# Altium schematic symbol library Capacitor - RF.SchLib: 172 symbols (part 3 of 3)
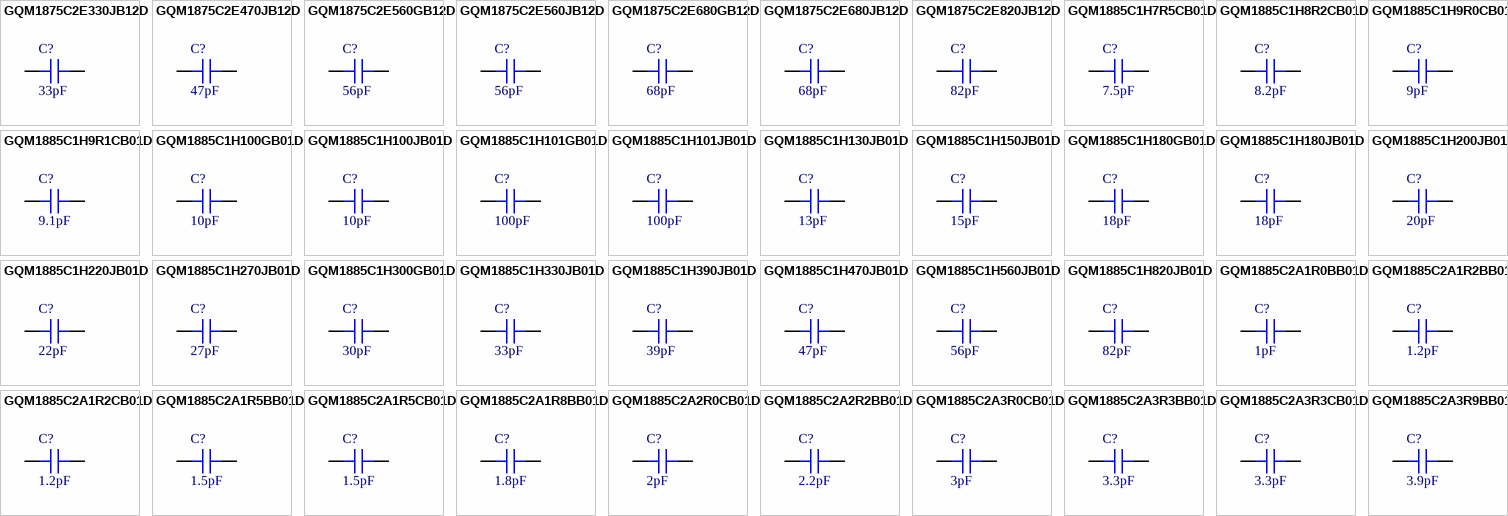
[diagram p6: symbols GQM1875C2E330JB12D to GQM1885C2A3R9BB01D]

## GQM1885C1H9R1CB01D
designator C?, comment 9.1pF
CAP CER 9.1PF 50V NP0 0603; Part Number: GQM1885C1H9R1CB01D; Manufacturer: Murata Electronics North America; TemperatureRange: -55C ~ 125C; TemperatureCoefficient: C0G, NP0; Tolerance: 0.25pF; Type: High Q, Low Loss; Value: 9.1pF; PartId: 3809; Supplier 1: Digi-Key; Supplier Part Number 1: 490-3569-2-ND; ComponentLink1Description: Datasheet; ComponentLink1URL: http://www.murata.com/~/media/webrenewal/support/library/catalog/products/capacitor/mlcc/c02e.ashx; ComponentLink2Description: Digi-Key listing; ComponentLink2URL: http://digikey.com/product-detail/en/GQM1885C1H9R1CB01D/490-3569-2-ND/789503; Voltage: 50V; Price: 0.1848; Device Package: 0603 (1608 Metric)
footprint CAP 0603/1608 RF
pins: 1, 2

## GQM1885C1H100GB01D
designator C?, comment 10pF
CAP CER 10PF 50V NP0 0603; Part Number: GQM1885C1H100GB01D; Manufacturer: Murata Electronics North America; TemperatureRange: -55C ~ 125C; TemperatureCoefficient: C0G, NP0; Tolerance: 2%; Type: High Q, Low Loss; Value: 10pF; PartId: 3825; Supplier 1: Digi-Key; Supplier Part Number 1: 490-6087-2-ND; ComponentLink1Description: Datasheet; ComponentLink1URL: http://www.murata.com/~/media/webrenewal/support/library/catalog/products/capacitor/mlcc/c02e.ashx; ComponentLink2Description: Digi-Key listing; ComponentLink2URL: http://digikey.com/product-detail/en/GQM1885C1H100GB01D/490-6087-2-ND/2593481; Voltage: 50V; Price: 0.241; Device Package: 0603 (1608 Metric)
footprint CAP 0603/1608 RF
pins: 1, 2

## GQM1885C1H100JB01D
designator C?, comment 10pF
CAP CER 10PF 50V NP0 0603; Part Number: GQM1885C1H100JB01D; Manufacturer: Murata Electronics North America; TemperatureRange: -55C ~ 125C; TemperatureCoefficient: C0G, NP0; Tolerance: 5%; Type: High Q, Low Loss; Value: 10pF; PartId: 3796; Supplier 1: Digi-Key; Supplier Part Number 1: 490-3570-2-ND; ComponentLink1Description: Datasheet; ComponentLink1URL: http://www.murata.com/~/media/webrenewal/support/library/catalog/products/capacitor/mlcc/c02e.ashx; ComponentLink2Description: Digi-Key listing; ComponentLink2URL: http://digikey.com/product-detail/en/GQM1885C1H100JB01D/490-3570-2-ND/789504; Voltage: 50V; Price: 0.1848; Device Package: 0603 (1608 Metric)
footprint CAP 0603/1608 RF
pins: 1, 2

## GQM1885C1H101GB01D
designator C?, comment 100pF
CAP CER 100PF 50V NP0 0603; Part Number: GQM1885C1H101GB01D; Manufacturer: Murata Electronics North America; TemperatureRange: -55C ~ 125C; TemperatureCoefficient: C0G, NP0; Tolerance: 2%; Type: High Q, Low Loss; Value: 100pF; PartId: 3835; Supplier 1: Digi-Key; Supplier Part Number 1: 490-6088-2-ND; ComponentLink1Description: Datasheet; ComponentLink1URL: http://www.murata.com/~/media/webrenewal/support/library/catalog/products/capacitor/mlcc/c02e.ashx; ComponentLink2Description: Digi-Key listing; ComponentLink2URL: http://digikey.com/product-detail/en/GQM1885C1H101GB01D/490-6088-2-ND/2593485; Voltage: 50V; Price: 0.3434; Device Package: 0603 (1608 Metric)
footprint CAP 0603/1608 RF
pins: 1, 2

## GQM1885C1H101JB01D
designator C?, comment 100pF
CAP CER 100PF 50V NP0 0603; Part Number: GQM1885C1H101JB01D; Manufacturer: Murata Electronics North America; TemperatureRange: -55C ~ 125C; TemperatureCoefficient: C0G, NP0; Tolerance: 5%; Type: High Q, Low Loss; Value: 100pF; PartId: 3799; Supplier 1: Digi-Key; Supplier Part Number 1: 490-3583-2-ND; ComponentLink1Description: Datasheet; ComponentLink1URL: http://www.murata.com/~/media/webrenewal/support/library/catalog/products/capacitor/mlcc/c02e.ashx; ComponentLink2Description: Digi-Key listing; ComponentLink2URL: http://digikey.com/product-detail/en/GQM1885C1H101JB01D/490-3583-2-ND/789517; Voltage: 50V; Price: 0.241; Device Package: 0603 (1608 Metric)
footprint CAP 0603/1608 RF
pins: 1, 2

## GQM1885C1H130JB01D
designator C?, comment 13pF
CAP CER 13PF 50V NP0 0603; Part Number: GQM1885C1H130JB01D; Manufacturer: Murata Electronics North America; TemperatureRange: -55C ~ 125C; TemperatureCoefficient: C0G, NP0; Tolerance: 5%; Type: High Q, Low Loss; Value: 13pF; PartId: 3854; Supplier 1: Digi-Key; Supplier Part Number 1: 490-11263-2-ND; ComponentLink1Description: Datasheet; ComponentLink1URL: http://www.murata.com/~/media/webrenewal/support/library/catalog/products/capacitor/mlcc/c02e.ashx; ComponentLink2Description: Digi-Key listing; ComponentLink2URL: http://digikey.com/product-detail/en/GQM1885C1H130JB01D/490-11263-2-ND/2593494; Voltage: 50V; Price: 0.241; Device Package: 0603 (1608 Metric)
footprint CAP 0603/1608 RF
pins: 1, 2

## GQM1885C1H150JB01D
designator C?, comment 15pF
CAP CER 15PF 50V NP0 0603; Part Number: GQM1885C1H150JB01D; Manufacturer: Murata Electronics North America; TemperatureRange: -55C ~ 125C; TemperatureCoefficient: C0G, NP0; Tolerance: 5%; Type: High Q, Low Loss; Value: 15pF; PartId: 3823; Supplier 1: Digi-Key; Supplier Part Number 1: 490-3572-2-ND; ComponentLink1Description: Datasheet; ComponentLink1URL: http://www.murata.com/~/media/webrenewal/support/library/catalog/products/capacitor/mlcc/c02e.ashx; ComponentLink2Description: Digi-Key listing; ComponentLink2URL: http://digikey.com/product-detail/en/GQM1885C1H150JB01D/490-3572-2-ND/789506; Voltage: 50V; Price: 0.241; Device Package: 0603 (1608 Metric)
footprint CAP 0603/1608 RF
pins: 1, 2

## GQM1885C1H180GB01D
designator C?, comment 18pF
CAP CER 18PF 50V NP0 0603; Part Number: GQM1885C1H180GB01D; Manufacturer: Murata Electronics North America; TemperatureRange: -55C ~ 125C; TemperatureCoefficient: C0G, NP0; Tolerance: 2%; Type: High Q, Low Loss; Value: 18pF; PartId: 3848; Supplier 1: Digi-Key; Supplier Part Number 1: 490-8130-2-ND; ComponentLink1Description: Datasheet; ComponentLink1URL: http://www.murata.com/~/media/webrenewal/support/library/catalog/products/capacitor/mlcc/c02e.ashx; ComponentLink2Description: Digi-Key listing; ComponentLink2URL: http://digikey.com/product-detail/en/GQM1885C1H180GB01D/490-8130-2-ND/2593504; Voltage: 50V; Price: 0.3434; Device Package: 0603 (1608 Metric)
footprint CAP 0603/1608 RF
pins: 1, 2

## GQM1885C1H180JB01D
designator C?, comment 18pF
CAP CER 18PF 50V NP0 0603; Part Number: GQM1885C1H180JB01D; Manufacturer: Murata Electronics North America; TemperatureRange: -55C ~ 125C; TemperatureCoefficient: C0G, NP0; Tolerance: 5%; Type: High Q, Low Loss; Value: 18pF; PartId: 3826; Supplier 1: Digi-Key; Supplier Part Number 1: 490-3573-2-ND; ComponentLink1Description: Datasheet; ComponentLink1URL: http://www.murata.com/~/media/webrenewal/support/library/catalog/products/capacitor/mlcc/c02e.ashx; ComponentLink2Description: Digi-Key listing; ComponentLink2URL: http://digikey.com/product-detail/en/GQM1885C1H180JB01D/490-3573-2-ND/789507; Voltage: 50V; Price: 0.241; Device Package: 0603 (1608 Metric)
footprint CAP 0603/1608 RF
pins: 1, 2

## GQM1885C1H200JB01D
designator C?, comment 20pF
CAP CER 20PF 50V NP0 0603; Part Number: GQM1885C1H200JB01D; Manufacturer: Murata Electronics North America; TemperatureRange: -55C ~ 125C; TemperatureCoefficient: C0G, NP0; Tolerance: 5%; Type: High Q, Low Loss; Value: 20pF; PartId: 3827; Supplier 1: Digi-Key; Supplier Part Number 1: 490-3574-2-ND; ComponentLink1Description: Datasheet; ComponentLink1URL: http://www.murata.com/~/media/webrenewal/support/library/catalog/products/capacitor/mlcc/c02e.ashx; ComponentLink2Description: Digi-Key listing; ComponentLink2URL: http://digikey.com/product-detail/en/GQM1885C1H200JB01D/490-3574-2-ND/789508; Voltage: 50V; Price: 0.241; Device Package: 0603 (1608 Metric)
footprint CAP 0603/1608 RF
pins: 1, 2

## GQM1885C1H220JB01D
designator C?, comment 22pF
CAP CER 22PF 50V NP0 0603; Part Number: GQM1885C1H220JB01D; Manufacturer: Murata Electronics North America; TemperatureRange: -55C ~ 125C; TemperatureCoefficient: C0G, NP0; Tolerance: 5%; Type: High Q, Low Loss; Value: 22pF; PartId: 3798; Supplier 1: Digi-Key; Supplier Part Number 1: 490-3575-2-ND; ComponentLink1Description: Datasheet; ComponentLink1URL: http://www.murata.com/~/media/webrenewal/support/library/catalog/products/capacitor/mlcc/c02e.ashx; ComponentLink2Description: Digi-Key listing; ComponentLink2URL: http://digikey.com/product-detail/en/GQM1885C1H220JB01D/490-3575-2-ND/789509; Voltage: 50V; Price: 0.241; Device Package: 0603 (1608 Metric)
footprint CAP 0603/1608 RF
pins: 1, 2

## GQM1885C1H270JB01D
designator C?, comment 27pF
CAP CER 27PF 50V NP0 0603; Part Number: GQM1885C1H270JB01D; Manufacturer: Murata Electronics North America; TemperatureRange: -55C ~ 125C; TemperatureCoefficient: C0G, NP0; Tolerance: 5%; Type: High Q, Low Loss; Value: 27pF; PartId: 3842; Supplier 1: Digi-Key; Supplier Part Number 1: 490-3576-2-ND; ComponentLink1Description: Datasheet; ComponentLink1URL: http://www.murata.com/~/media/webrenewal/support/library/catalog/products/capacitor/mlcc/c02e.ashx; ComponentLink2Description: Digi-Key listing; ComponentLink2URL: http://digikey.com/product-detail/en/GQM1885C1H270JB01D/490-3576-2-ND/789510; Voltage: 50V; Price: 0.241; Device Package: 0603 (1608 Metric)
footprint CAP 0603/1608 RF
pins: 1, 2

## GQM1885C1H300GB01D
designator C?, comment 30pF
CAP CER 30PF 50V NP0 0603; Part Number: GQM1885C1H300GB01D; Manufacturer: Murata Electronics North America; TemperatureRange: -55C ~ 125C; TemperatureCoefficient: C0G, NP0; Tolerance: 2%; Type: High Q, Low Loss; Value: 30pF; PartId: 3849; Supplier 1: Digi-Key; Supplier Part Number 1: 490-8132-2-ND; ComponentLink1Description: Datasheet; ComponentLink1URL: http://www.murata.com/~/media/webrenewal/support/library/catalog/products/capacitor/mlcc/c02e.ashx; ComponentLink2Description: Digi-Key listing; ComponentLink2URL: http://digikey.com/product-detail/en/GQM1885C1H300GB01D/490-8132-2-ND/2593524; Voltage: 50V; Price: 0.3434; Device Package: 0603 (1608 Metric)
footprint CAP 0603/1608 RF
pins: 1, 2

## GQM1885C1H330JB01D
designator C?, comment 33pF
CAP CER 33PF 50V NP0 0603; Part Number: GQM1885C1H330JB01D; Manufacturer: Murata Electronics North America; TemperatureRange: -55C ~ 125C; TemperatureCoefficient: C0G, NP0; Tolerance: 5%; Type: High Q, Low Loss; Value: 33pF; PartId: 3800; Supplier 1: Digi-Key; Supplier Part Number 1: 490-3577-2-ND; ComponentLink1Description: Datasheet; ComponentLink1URL: http://www.murata.com/~/media/webrenewal/support/library/catalog/products/capacitor/mlcc/c02e.ashx; ComponentLink2Description: Digi-Key listing; ComponentLink2URL: http://digikey.com/product-detail/en/GQM1885C1H330JB01D/490-3577-2-ND/789511; Voltage: 50V; Price: 0.241; Device Package: 0603 (1608 Metric)
footprint CAP 0603/1608 RF
pins: 1, 2

## GQM1885C1H390JB01D
designator C?, comment 39pF
CAP CER 39PF 50V NP0 0603; Part Number: GQM1885C1H390JB01D; Manufacturer: Murata Electronics North America; TemperatureRange: -55C ~ 125C; TemperatureCoefficient: C0G, NP0; Tolerance: 5%; Type: High Q, Low Loss; Value: 39pF; PartId: 3828; Supplier 1: Digi-Key; Supplier Part Number 1: 490-3578-2-ND; ComponentLink1Description: Datasheet; ComponentLink1URL: http://www.murata.com/~/media/webrenewal/support/library/catalog/products/capacitor/mlcc/c02e.ashx; ComponentLink2Description: Digi-Key listing; ComponentLink2URL: http://digikey.com/product-detail/en/GQM1885C1H390JB01D/490-3578-2-ND/789512; Voltage: 50V; Price: 0.241; Device Package: 0603 (1608 Metric)
footprint CAP 0603/1608 RF
pins: 1, 2

## GQM1885C1H470JB01D
designator C?, comment 47pF
CAP CER 47PF 50V NP0 0603; Part Number: GQM1885C1H470JB01D; Manufacturer: Murata Electronics North America; TemperatureRange: -55C ~ 125C; TemperatureCoefficient: C0G, NP0; Tolerance: 5%; Type: High Q, Low Loss; Value: 47pF; PartId: 3829; Supplier 1: Digi-Key; Supplier Part Number 1: 490-3579-2-ND; ComponentLink1Description: Datasheet; ComponentLink1URL: http://www.murata.com/~/media/webrenewal/support/library/catalog/products/capacitor/mlcc/c02e.ashx; ComponentLink2Description: Digi-Key listing; ComponentLink2URL: http://digikey.com/product-detail/en/GQM1885C1H470JB01D/490-3579-2-ND/789513; Voltage: 50V; Price: 0.241; Device Package: 0603 (1608 Metric)
footprint CAP 0603/1608 RF
pins: 1, 2

## GQM1885C1H560JB01D
designator C?, comment 56pF
CAP CER 56PF 50V NP0 0603; Part Number: GQM1885C1H560JB01D; Manufacturer: Murata Electronics North America; TemperatureRange: -55C ~ 125C; TemperatureCoefficient: C0G, NP0; Tolerance: 5%; Type: High Q, Low Loss; Value: 56pF; PartId: 3824; Supplier 1: Digi-Key; Supplier Part Number 1: 490-3580-2-ND; ComponentLink1Description: Datasheet; ComponentLink1URL: http://www.murata.com/~/media/webrenewal/support/library/catalog/products/capacitor/mlcc/c02e.ashx; ComponentLink2Description: Digi-Key listing; ComponentLink2URL: http://digikey.com/product-detail/en/GQM1885C1H560JB01D/490-3580-2-ND/789514; Voltage: 50V; Price: 0.241; Device Package: 0603 (1608 Metric)
footprint CAP 0603/1608 RF
pins: 1, 2

## GQM1885C1H820JB01D
designator C?, comment 82pF
CAP CER 82PF 50V NP0 0603; Part Number: GQM1885C1H820JB01D; Manufacturer: Murata Electronics North America; TemperatureRange: -55C ~ 125C; TemperatureCoefficient: C0G, NP0; Tolerance: 5%; Type: High Q, Low Loss; Value: 82pF; PartId: 3841; Supplier 1: Digi-Key; Supplier Part Number 1: 490-3582-2-ND; ComponentLink1Description: Datasheet; ComponentLink1URL: http://www.murata.com/~/media/webrenewal/support/library/catalog/products/capacitor/mlcc/c02e.ashx; ComponentLink2Description: Digi-Key listing; ComponentLink2URL: http://digikey.com/product-detail/en/GQM1885C1H820JB01D/490-3582-2-ND/789516; Voltage: 50V; Price: 0.241; Device Package: 0603 (1608 Metric)
footprint CAP 0603/1608 RF
pins: 1, 2

## GQM1885C2A1R0BB01D
designator C?, comment 1pF
CAP CER 1PF 100V NP0 0603; Part Number: GQM1885C2A1R0BB01D; Manufacturer: Murata Electronics North America; TemperatureRange: -55C ~ 125C; TemperatureCoefficient: C0G, NP0; Tolerance: 0.1pF; Type: High Q, Low Loss; Value: 1pF; PartId: 3797; Supplier 1: Digi-Key; Supplier Part Number 1: 490-6090-2-ND; ComponentLink1Description: Datasheet; ComponentLink1URL: http://www.murata.com/~/media/webrenewal/support/library/catalog/products/capacitor/mlcc/c02e.ashx; ComponentLink2Description: Digi-Key listing; ComponentLink2URL: http://digikey.com/product-detail/en/GQM1885C2A1R0BB01D/490-6090-2-ND/2593597; Voltage: 100V; Price: 0.218; Device Package: 0603 (1608 Metric)
footprint CAP 0603/1608 RF
pins: 1, 2

## GQM1885C2A1R2BB01D
designator C?, comment 1.2pF
CAP CER 1.2PF 100V NP0 0603; Part Number: GQM1885C2A1R2BB01D; Manufacturer: Murata Electronics North America; TemperatureRange: -55C ~ 125C; TemperatureCoefficient: C0G, NP0; Tolerance: 0.1pF; Type: High Q, Low Loss; Value: 1.2pF; PartId: 3816; Supplier 1: Digi-Key; Supplier Part Number 1: 490-4836-2-ND; ComponentLink1Description: Datasheet; ComponentLink1URL: http://www.murata.com/~/media/webrenewal/support/library/catalog/products/capacitor/mlcc/c02e.ashx; ComponentLink2Description: Digi-Key listing; ComponentLink2URL: http://digikey.com/product-detail/en/GQM1885C2A1R2BB01D/490-4836-2-ND/1687474; Voltage: 100V; Price: 0.218; Device Package: 0603 (1608 Metric)
footprint CAP 0603/1608 RF
pins: 1, 2

## GQM1885C2A1R2CB01D
designator C?, comment 1.2pF
CAP CER 1.2PF 100V NP0 0603; Part Number: GQM1885C2A1R2CB01D; Manufacturer: Murata Electronics North America; TemperatureRange: -55C ~ 125C; TemperatureCoefficient: C0G, NP0; Tolerance: 0.25pF; Type: High Q, Low Loss; Value: 1.2pF; PartId: 3836; Supplier 1: Digi-Key; Supplier Part Number 1: 490-8583-2-ND; ComponentLink1Description: Datasheet; ComponentLink1URL: http://www.murata.com/~/media/webrenewal/support/library/catalog/products/capacitor/mlcc/c02e.ashx; ComponentLink2Description: Digi-Key listing; ComponentLink2URL: http://digikey.com/product-detail/en/GQM1885C2A1R2CB01D/490-8583-2-ND/2345090; Voltage: 100V; Price: 0.168; Device Package: 0603 (1608 Metric)
footprint CAP 0603/1608 RF
pins: 1, 2

## GQM1885C2A1R5BB01D
designator C?, comment 1.5pF
CAP CER 1.5PF 100V NP0 0603; Part Number: GQM1885C2A1R5BB01D; Manufacturer: Murata Electronics North America; TemperatureRange: -55C ~ 125C; TemperatureCoefficient: C0G, NP0; Tolerance: 0.1pF; Type: High Q, Low Loss; Value: 1.5pF; PartId: 3822; Supplier 1: Digi-Key; Supplier Part Number 1: 490-6091-2-ND; ComponentLink1Description: Datasheet; ComponentLink1URL: http://www.murata.com/~/media/webrenewal/support/library/catalog/products/capacitor/mlcc/c02e.ashx; ComponentLink2Description: Digi-Key listing; ComponentLink2URL: http://digikey.com/product-detail/en/GQM1885C2A1R5BB01D/490-6091-2-ND/2593618; Voltage: 100V; Price: 0.218; Device Package: 0603 (1608 Metric)
footprint CAP 0603/1608 RF
pins: 1, 2

## GQM1885C2A1R5CB01D
designator C?, comment 1.5pF
CAP CER 1.5PF 100V NP0 0603; Part Number: GQM1885C2A1R5CB01D; Manufacturer: Murata Electronics North America; TemperatureRange: -55C ~ 125C; TemperatureCoefficient: C0G, NP0; Tolerance: 0.25pF; Type: High Q, Low Loss; Value: 1.5pF; PartId: 3851; Supplier 1: Digi-Key; Supplier Part Number 1: 490-3554-2-ND; ComponentLink1Description: Datasheet; ComponentLink1URL: http://www.murata.com/~/media/webrenewal/support/library/catalog/products/capacitor/mlcc/c02e.ashx; ComponentLink2Description: Digi-Key listing; ComponentLink2URL: http://digikey.com/product-detail/en/GQM1885C2A1R5CB01D/490-3554-2-ND/789486; Voltage: 100V; Price: 0.168; Device Package: 0603 (1608 Metric)
footprint CAP 0603/1608 RF
pins: 1, 2

## GQM1885C2A1R8BB01D
designator C?, comment 1.8pF
CAP CER 1.8PF 100V NP0 0603; Part Number: GQM1885C2A1R8BB01D; Manufacturer: Murata Electronics North America; TemperatureRange: -55C ~ 125C; TemperatureCoefficient: C0G, NP0; Tolerance: 0.1pF; Type: High Q, Low Loss; Value: 1.8pF; PartId: 3817; Supplier 1: Digi-Key; Supplier Part Number 1: 490-4837-2-ND; ComponentLink1Description: Datasheet; ComponentLink1URL: http://www.murata.com/~/media/webrenewal/support/library/catalog/products/capacitor/mlcc/c02e.ashx; ComponentLink2Description: Digi-Key listing; ComponentLink2URL: http://digikey.com/product-detail/en/GQM1885C2A1R8BB01D/490-4837-2-ND/1687475; Voltage: 100V; Price: 0.218; Device Package: 0603 (1608 Metric)
footprint CAP 0603/1608 RF
pins: 1, 2

## GQM1885C2A2R0CB01D
designator C?, comment 2pF
CAP CER 2PF 100V NP0 0603; Part Number: GQM1885C2A2R0CB01D; Manufacturer: Murata Electronics North America; TemperatureRange: -55C ~ 125C; TemperatureCoefficient: C0G, NP0; Tolerance: 0.25pF; Type: High Q, Low Loss; Value: 2pF; PartId: 3855; Supplier 1: Digi-Key; Supplier Part Number 1: 490-3555-2-ND; ComponentLink1Description: Datasheet; ComponentLink1URL: http://www.murata.com/~/media/webrenewal/support/library/catalog/products/capacitor/mlcc/c02e.ashx; ComponentLink2Description: Digi-Key listing; ComponentLink2URL: http://digikey.com/product-detail/en/GQM1885C2A2R0CB01D/490-3555-2-ND/789488; Voltage: 100V; Price: 0.168; Device Package: 0603 (1608 Metric)
footprint CAP 0603/1608 RF
pins: 1, 2

## GQM1885C2A2R2BB01D
designator C?, comment 2.2pF
CAP CER 2.2PF 100V NP0 0603; Part Number: GQM1885C2A2R2BB01D; Manufacturer: Murata Electronics North America; TemperatureRange: -55C ~ 125C; TemperatureCoefficient: C0G, NP0; Tolerance: 0.1pF; Type: High Q, Low Loss; Value: 2.2pF; PartId: 3821; Supplier 1: Digi-Key; Supplier Part Number 1: 490-4838-2-ND; ComponentLink1Description: Datasheet; ComponentLink1URL: http://www.murata.com/~/media/webrenewal/support/library/catalog/products/capacitor/mlcc/c02e.ashx; ComponentLink2Description: Digi-Key listing; ComponentLink2URL: http://digikey.com/product-detail/en/GQM1885C2A2R2BB01D/490-4838-2-ND/1687476; Voltage: 100V; Price: 0.218; Device Package: 0603 (1608 Metric)
footprint CAP 0603/1608 RF
pins: 1, 2

## GQM1885C2A3R0CB01D
designator C?, comment 3pF
CAP CER 3PF 100V NP0 0603; Part Number: GQM1885C2A3R0CB01D; Manufacturer: Murata Electronics North America; TemperatureRange: -55C ~ 125C; TemperatureCoefficient: C0G, NP0; Tolerance: 0.25pF; Type: High Q, Low Loss; Value: 3pF; PartId: 3807; Supplier 1: Digi-Key; Supplier Part Number 1: 490-3556-2-ND; ComponentLink1Description: Datasheet; ComponentLink1URL: http://www.murata.com/~/media/webrenewal/support/library/catalog/products/capacitor/mlcc/c02e.ashx; ComponentLink2Description: Digi-Key listing; ComponentLink2URL: http://digikey.com/product-detail/en/GQM1885C2A3R0CB01D/490-3556-2-ND/789490; Voltage: 100V; Price: 0.168; Device Package: 0603 (1608 Metric)
footprint CAP 0603/1608 RF
pins: 1, 2

## GQM1885C2A3R3BB01D
designator C?, comment 3.3pF
CAP CER 3.3PF 100V NP0 0603; Part Number: GQM1885C2A3R3BB01D; Manufacturer: Murata Electronics North America; TemperatureRange: -55C ~ 125C; TemperatureCoefficient: C0G, NP0; Tolerance: 0.1pF; Type: High Q, Low Loss; Value: 3.3pF; PartId: 3815; Supplier 1: Digi-Key; Supplier Part Number 1: 490-4840-2-ND; ComponentLink1Description: Datasheet; ComponentLink1URL: http://www.murata.com/~/media/webrenewal/support/library/catalog/products/capacitor/mlcc/c02e.ashx; ComponentLink2Description: Digi-Key listing; ComponentLink2URL: http://digikey.com/product-detail/en/GQM1885C2A3R3BB01D/490-4840-2-ND/1687478; Voltage: 100V; Price: 0.218; Device Package: 0603 (1608 Metric)
footprint CAP 0603/1608 RF
pins: 1, 2

## GQM1885C2A3R3CB01D
designator C?, comment 3.3pF
CAP CER 3.3PF 100V NP0 0603; Part Number: GQM1885C2A3R3CB01D; Manufacturer: Murata Electronics North America; TemperatureRange: -55C ~ 125C; TemperatureCoefficient: C0G, NP0; Tolerance: 0.25pF; Type: High Q, Low Loss; Value: 3.3pF; PartId: 3837; Supplier 1: Digi-Key; Supplier Part Number 1: 490-8134-2-ND; ComponentLink1Description: Datasheet; ComponentLink1URL: http://www.murata.com/~/media/webrenewal/support/library/catalog/products/capacitor/mlcc/c02e.ashx; ComponentLink2Description: Digi-Key listing; ComponentLink2URL: http://digikey.com/product-detail/en/GQM1885C2A3R3CB01D/490-8134-2-ND/2593658; Voltage: 100V; Price: 0.168; Device Package: 0603 (1608 Metric)
footprint CAP 0603/1608 RF
pins: 1, 2

## GQM1885C2A3R9BB01D
designator C?, comment 3.9pF
CAP CER 3.9PF 100V NP0 0603; Part Number: GQM1885C2A3R9BB01D; Manufacturer: Murata Electronics North America; TemperatureRange: -55C ~ 125C; TemperatureCoefficient: C0G, NP0; Tolerance: 0.1pF; Type: High Q, Low Loss; Value: 3.9pF; PartId: 3818; Supplier 1: Digi-Key; Supplier Part Number 1: 490-4841-2-ND; ComponentLink1Description: Datasheet; ComponentLink1URL: http://www.murata.com/~/media/webrenewal/support/library/catalog/products/capacitor/mlcc/c02e.ashx; ComponentLink2Description: Digi-Key listing; ComponentLink2URL: http://digikey.com/product-detail/en/GQM1885C2A3R9BB01D/490-4841-2-ND/1687479; Voltage: 100V; Price: 0.218; Device Package: 0603 (1608 Metric)
footprint CAP 0603/1608 RF
pins: 1, 2

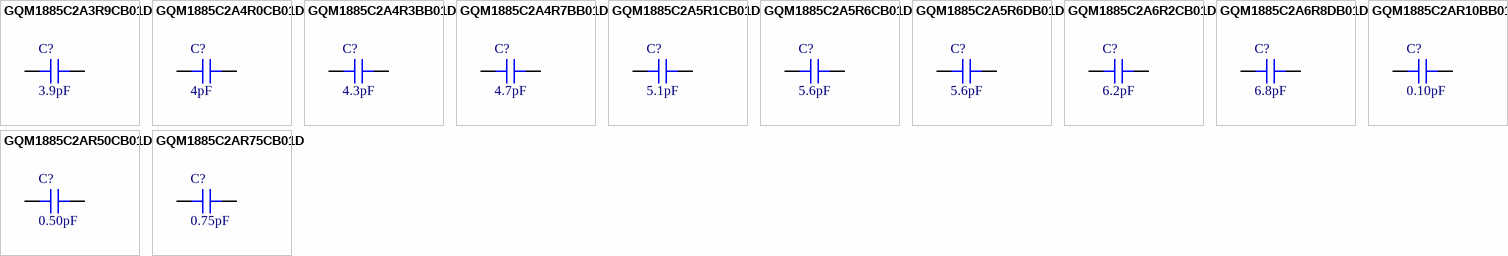
[diagram p4: symbols GQM1885C2A3R9CB01D to GQM1885C2AR75CB01D]

## GQM1885C2A3R9CB01D
designator C?, comment 3.9pF
CAP CER 3.9PF 100V NP0 0603; Part Number: GQM1885C2A3R9CB01D; Manufacturer: Murata Electronics North America; TemperatureRange: -55C ~ 125C; TemperatureCoefficient: C0G, NP0; Tolerance: 0.25pF; Type: High Q, Low Loss; Value: 3.9pF; PartId: 3838; Supplier 1: Digi-Key; Supplier Part Number 1: 490-8136-2-ND; ComponentLink1Description: Datasheet; ComponentLink1URL: http://www.murata.com/~/media/webrenewal/support/library/catalog/products/capacitor/mlcc/c02e.ashx; ComponentLink2Description: Digi-Key listing; ComponentLink2URL: http://digikey.com/product-detail/en/GQM1885C2A3R9CB01D/490-8136-2-ND/2593669; Voltage: 100V; Price: 0.168; Device Package: 0603 (1608 Metric)
footprint CAP 0603/1608 RF
pins: 1, 2

## GQM1885C2A4R0CB01D
designator C?, comment 4pF
CAP CER 4PF 100V NP0 0603; Part Number: GQM1885C2A4R0CB01D; Manufacturer: Murata Electronics North America; TemperatureRange: -55C ~ 125C; TemperatureCoefficient: C0G, NP0; Tolerance: 0.25pF; Type: High Q, Low Loss; Value: 4pF; PartId: 3808; Supplier 1: Digi-Key; Supplier Part Number 1: 490-3557-2-ND; ComponentLink1Description: Datasheet; ComponentLink1URL: http://www.murata.com/~/media/webrenewal/support/library/catalog/products/capacitor/mlcc/c02e.ashx; ComponentLink2Description: Digi-Key listing; ComponentLink2URL: http://digikey.com/product-detail/en/GQM1885C2A4R0CB01D/490-3557-2-ND/789491; Voltage: 100V; Price: 0.168; Device Package: 0603 (1608 Metric)
footprint CAP 0603/1608 RF
pins: 1, 2

## GQM1885C2A4R3BB01D
designator C?, comment 4.3pF
CAP CER 4.3PF 100V NP0 0603; Part Number: GQM1885C2A4R3BB01D; Manufacturer: Murata Electronics North America; TemperatureRange: -55C ~ 125C; TemperatureCoefficient: C0G, NP0; Tolerance: 0.1pF; Type: High Q, Low Loss; Value: 4.3pF; PartId: 3819; Supplier 1: Digi-Key; Supplier Part Number 1: 490-6096-2-ND; ComponentLink1Description: Datasheet; ComponentLink1URL: http://www.murata.com/~/media/webrenewal/support/library/catalog/products/capacitor/mlcc/c02e.ashx; ComponentLink2Description: Digi-Key listing; ComponentLink2URL: http://digikey.com/product-detail/en/GQM1885C2A4R3BB01D/490-6096-2-ND/2593678; Voltage: 100V; Price: 0.218; Device Package: 0603 (1608 Metric)
footprint CAP 0603/1608 RF
pins: 1, 2

## GQM1885C2A4R7BB01D
designator C?, comment 4.7pF
CAP CER 4.7PF 100V NP0 0603; Part Number: GQM1885C2A4R7BB01D; Manufacturer: Murata Electronics North America; TemperatureRange: -55C ~ 125C; TemperatureCoefficient: C0G, NP0; Tolerance: 0.1pF; Type: High Q, Low Loss; Value: 4.7pF; PartId: 3814; Supplier 1: Digi-Key; Supplier Part Number 1: 490-4842-2-ND; ComponentLink1Description: Datasheet; ComponentLink1URL: http://www.murata.com/~/media/webrenewal/support/library/catalog/products/capacitor/mlcc/c02e.ashx; ComponentLink2Description: Digi-Key listing; ComponentLink2URL: http://digikey.com/product-detail/en/GQM1885C2A4R7BB01D/490-4842-2-ND/1687480; Voltage: 100V; Price: 0.218; Device Package: 0603 (1608 Metric)
footprint CAP 0603/1608 RF
pins: 1, 2

## GQM1885C2A5R1CB01D
designator C?, comment 5.1pF
CAP CER 5.1PF 100V NP0 0603; Part Number: GQM1885C2A5R1CB01D; Manufacturer: Murata Electronics North America; TemperatureRange: -55C ~ 125C; TemperatureCoefficient: C0G, NP0; Tolerance: 0.25pF; Type: High Q, Low Loss; Value: 5.1pF; PartId: 3804; Supplier 1: Digi-Key; Supplier Part Number 1: 490-3559-2-ND; ComponentLink1Description: Datasheet; ComponentLink1URL: http://www.murata.com/~/media/webrenewal/support/library/catalog/products/capacitor/mlcc/c02e.ashx; ComponentLink2Description: Digi-Key listing; ComponentLink2URL: http://digikey.com/product-detail/en/GQM1885C2A5R1CB01D/490-3559-2-ND/789493; Voltage: 100V; Price: 0.168; Device Package: 0603 (1608 Metric)
footprint CAP 0603/1608 RF
pins: 1, 2

## GQM1885C2A5R6CB01D
designator C?, comment 5.6pF
CAP CER 5.6PF 100V NP0 0603; Part Number: GQM1885C2A5R6CB01D; Manufacturer: Murata Electronics North America; TemperatureRange: -55C ~ 125C; TemperatureCoefficient: C0G, NP0; Tolerance: 0.25pF; Type: High Q, Low Loss; Value: 5.6pF; PartId: 3802; Supplier 1: Digi-Key; Supplier Part Number 1: 490-3560-2-ND; ComponentLink1Description: Datasheet; ComponentLink1URL: http://www.murata.com/~/media/webrenewal/support/library/catalog/products/capacitor/mlcc/c02e.ashx; ComponentLink2Description: Digi-Key listing; ComponentLink2URL: http://digikey.com/product-detail/en/GQM1885C2A5R6CB01D/490-3560-2-ND/789494; Voltage: 100V; Price: 0.168; Device Package: 0603 (1608 Metric)
footprint CAP 0603/1608 RF
pins: 1, 2

## GQM1885C2A5R6DB01D
designator C?, comment 5.6pF
CAP CER 5.6PF 100V NP0 0603; Part Number: GQM1885C2A5R6DB01D; Manufacturer: Murata Electronics North America; TemperatureRange: -55C ~ 125C; TemperatureCoefficient: C0G, NP0; Tolerance: 0.5pF; Type: High Q, Low Loss; Value: 5.6pF; PartId: 3852; Supplier 1: Digi-Key; Supplier Part Number 1: 490-11273-2-ND; ComponentLink1Description: Datasheet; ComponentLink1URL: http://search.murata.co.jp/Ceramy/image/img/A01X/G101/ENG/GQM1885C2A5R6DB01-01.pdf; ComponentLink2Description: Digi-Key listing; ComponentLink2URL: http://digikey.com/product-detail/en/GQM1885C2A5R6DB01D/490-11273-2-ND/2593702; Voltage: 100V; Price: 0.168; Device Package: 0603 (1608 Metric)
footprint CAP 0603/1608 RF
pins: 1, 2

## GQM1885C2A6R2CB01D
designator C?, comment 6.2pF
CAP CER 6.2PF 100V NP0 0603; Part Number: GQM1885C2A6R2CB01D; Manufacturer: Murata Electronics North America; TemperatureRange: -55C ~ 125C; TemperatureCoefficient: C0G, NP0; Tolerance: 0.25pF; Type: High Q, Low Loss; Value: 6.2pF; PartId: 3805; Supplier 1: Digi-Key; Supplier Part Number 1: 490-3562-2-ND; ComponentLink1Description: Datasheet; ComponentLink1URL: http://www.murata.com/~/media/webrenewal/support/library/catalog/products/capacitor/mlcc/c02e.ashx; ComponentLink2Description: Digi-Key listing; ComponentLink2URL: http://digikey.com/product-detail/en/GQM1885C2A6R2CB01D/490-3562-2-ND/789496; Voltage: 100V; Price: 0.168; Device Package: 0603 (1608 Metric)
footprint CAP 0603/1608 RF
pins: 1, 2

## GQM1885C2A6R8DB01D
designator C?, comment 6.8pF
CAP CER 6.8PF 100V NP0 0603; Part Number: GQM1885C2A6R8DB01D; Manufacturer: Murata Electronics North America; TemperatureRange: -55C ~ 125C; TemperatureCoefficient: C0G, NP0; Tolerance: 0.5pF; Type: High Q, Low Loss; Value: 6.8pF; PartId: 3853; Supplier 1: Digi-Key; Supplier Part Number 1: 490-11274-2-ND; ComponentLink1Description: Datasheet; ComponentLink1URL: http://www.murata.com/~/media/webrenewal/support/library/catalog/products/capacitor/mlcc/c02e.ashx; ComponentLink2Description: Digi-Key listing; ComponentLink2URL: http://digikey.com/product-detail/en/GQM1885C2A6R8DB01D/490-11274-2-ND/2593716; Voltage: 100V; Price: 0.168; Device Package: 0603 (1608 Metric)
footprint CAP 0603/1608 RF
pins: 1, 2

## GQM1885C2AR10BB01D
designator C?, comment 0.10pF
CAP CER 0.1PF 100V NP0 0603; Part Number: GQM1885C2AR10BB01D; Manufacturer: Murata Electronics North America; TemperatureRange: -55C ~ 125C; TemperatureCoefficient: C0G, NP0; Type: High Q, Low Loss; Value: 0.10pF; PartId: 3820; Supplier 1: Digi-Key; Supplier Part Number 1: 490-4835-2-ND; ComponentLink1Description: Datasheet; ComponentLink1URL: http://search.murata.co.jp/Ceramy/image/img/A01X/G101/ENG/GQM1885C2AR10BB01-01.pdf; ComponentLink2Description: Digi-Key listing; ComponentLink2URL: http://digikey.com/product-detail/en/GQM1885C2AR10BB01D/490-4835-2-ND/1687473; Tolerance: 0.1pF; Voltage: 100V; Price: 0.218; Device Package: 0603 (1608 Metric)
footprint CAP 0603/1608 RF
pins: 1, 2

## GQM1885C2AR50CB01D
designator C?, comment 0.50pF
CAP CER 0.50PF 100V NP0 0603; Part Number: GQM1885C2AR50CB01D; Manufacturer: Murata Electronics North America; TemperatureRange: -55C ~ 125C; TemperatureCoefficient: C0G, NP0; Tolerance: 0.25pF; Type: High Q, Low Loss; Value: 0.50pF; PartId: 3806; Supplier 1: Digi-Key; Supplier Part Number 1: 490-3551-2-ND; ComponentLink1Description: Datasheet; ComponentLink1URL: http://search.murata.co.jp/Ceramy/image/img/A01X/G101/ENG/GQM1885C2AR50CB01-01.pdf; ComponentLink2Description: Digi-Key listing; ComponentLink2URL: http://digikey.com/product-detail/en/GQM1885C2AR50CB01D/490-3551-2-ND/789479; Voltage: 100V; Price: 0.168; Device Package: 0603 (1608 Metric)
footprint CAP 0603/1608 RF
pins: 1, 2

## GQM1885C2AR75CB01D
designator C?, comment 0.75pF
CAP CER 0.75PF 100V NP0 0603; Part Number: GQM1885C2AR75CB01D; Manufacturer: Murata Electronics North America; TemperatureRange: -55C ~ 125C; TemperatureCoefficient: C0G, NP0; Tolerance: 0.25pF; Type: High Q, Low Loss; Value: 0.75pF; PartId: 3803; Supplier 1: Digi-Key; Supplier Part Number 1: 490-3552-2-ND; ComponentLink1Description: Datasheet; ComponentLink1URL: http://search.murata.co.jp/Ceramy/image/img/A01X/G101/ENG/GQM1885C2AR75CB01-01.pdf; ComponentLink2Description: Digi-Key listing; ComponentLink2URL: http://digikey.com/product-detail/en/GQM1885C2AR75CB01D/490-3552-2-ND/789482; Voltage: 100V; Price: 0.168; Device Package: 0603 (1608 Metric)
footprint CAP 0603/1608 RF
pins: 1, 2